# Altium integrated library 7segment.IntLib: 1 symbol
Pins are listed as number, name and electrical type; pins without a type are passive.

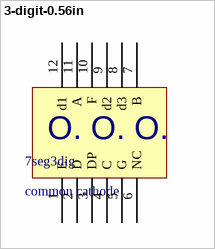
[diagram p0: symbol 3-digit-0.56in]

## 3-digit-0.56in
designator 7seg3dig, comment common cathode
footprint 3dig
pins: 1 E, 2 D, 3 DP, 4 C, 5 G, 6 NC, 7 B, 8 d3, 9 d2, 10 F, 11 A, 12 d1
text: O. O. O.